# EAGLE library part 96B-LS-87832-6922 (library U96-SVM)
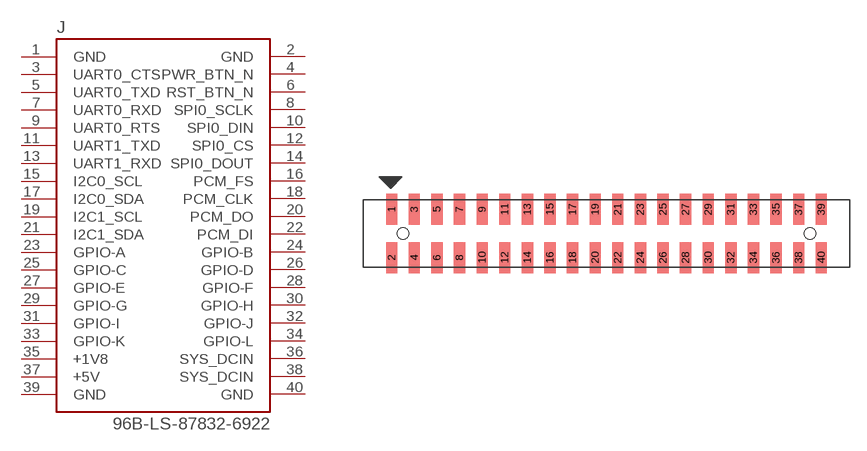
[diagram p4: symbol with the pads of 87832-6922; footprint 87832-6922]

Designator prefix J

## 96B-LS-87832-6922  [87832-6922]
1  GND
2  GND
3  UART0_CTS
4  PWR_BTN_N
5  UART0_TXD
6  RST_BTN_N
7  UART0_RXD
8  SPI0_SCLK
9  UART0_RTS
10  SPI0_DIN
11  UART1_TXD
12  SPI0_CS
13  UART1_RXD
14  SPI0_DOUT
15  I2C0_SCL
16  PCM_FS
17  I2C0_SDA
18  PCM_CLK
19  I2C1_SCL
20  PCM_DO
21  I2C1_SDA
22  PCM_DI
23  GPIO-A
24  GPIO-B
25  GPIO-C
26  GPIO-D
27  GPIO-E
28  GPIO-F
29  GPIO-G
30  GPIO-H
31  GPIO-I
32  GPIO-J
33  GPIO-K
34  GPIO-L
35  +1V8
36  SYS_DCIN
37  +5V
38  SYS_DCIN
39  GND
40  GND

## Footprint 87832-6922 (pad centres in mm)
smd 1 x 2.75: 1 -19,2.13; 2 -19,-2.13; 3 -17,2.13; 4 -17,-2.13; 5 -15,2.13; 6 -15,-2.13; 7 -13,2.13; 8 -13,-2.13; 9 -11,2.13; 10 -11,-2.13; 11 -9,2.13; 12 -9,-2.13; 13 -7,2.13; 14 -7,-2.13; 15 -5,2.13; 16 -5,-2.13; 17 -3,2.13; 18 -3,-2.13; 19 -1,2.13; 20 -1,-2.13; 21 1,2.13; 22 1,-2.13; 23 3,2.13; 24 3,-2.13; 25 5,2.13; 26 5,-2.13; 27 7,2.13; 28 7,-2.13; 29 9,2.13; 30 9,-2.13; 31 11,2.13; 32 11,-2.13; 33 13,2.13; 34 13,-2.13; 35 15,2.13; 36 15,-2.13; 37 17,2.13; 38 17,-2.13; 39 19,2.13; 40 19,-2.13
hole 1 at -18,0
hole 1 at 18,0